# Altium schematic symbol library Schlib_R0805.SchLib: 6 symbols
Pins are listed as number, name and electrical type; pins without a type are passive.

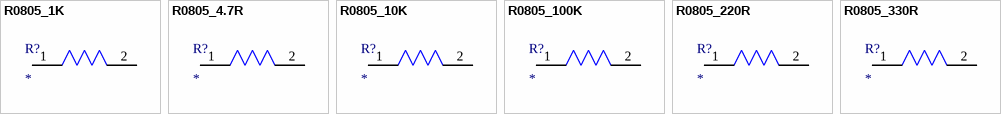
[diagram p0: symbols R0805_1K to R0805_330R]

## R0805_1K
designator R?
R0805_1K
footprint R0805
pins: 1, 2

## R0805_4.7R
designator R?
R0805_4.7R
footprint R0805
pins: 1, 2

## R0805_10K
designator R?
R0805_10K
footprint R0805
pins: 1, 2

## R0805_100K
designator R?
R0805_100K
footprint R0805
pins: 1, 2

## R0805_220R
designator R?
R0805_220R
footprint R0805
pins: 1, 2

## R0805_330R
designator R?
R0805_330R
footprint R0805
pins: 1, 2